# Altium schematic symbol library 晶闸管.SchLib: 2 symbols
Pins are listed as number, name and electrical type; pins without a type are passive.

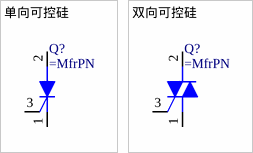
[diagram p0: symbols 单向可控硅 to 双向可控硅]

## 单向可控硅
designator Q?
pins: 1 K, 2 A, 3 G

## 双向可控硅
designator Q?
pins: 1 A1, 2 A2, 3 G